# Altium footprint library TCRT5000.PcbLib: 1 footprints
Each footprint in its own frame and in the unit in brackets; x right, y up, seen from the top. Pads: shape width x height; smd on the part's side, far side on the other; paste and mask are expansions set on the pad; w line width, h text height; cw(c..) or ccw(c..) is an arc to the next point about the centre after c.
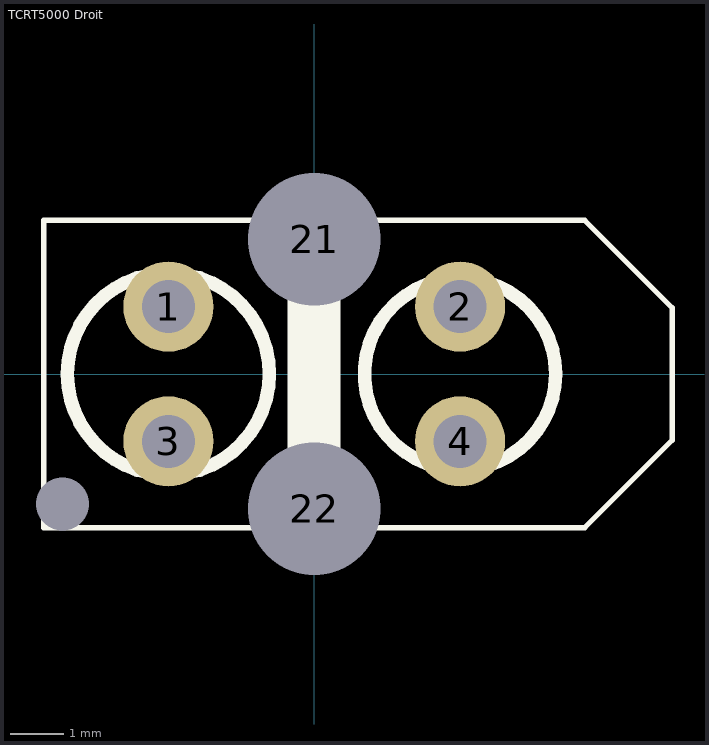
[diagram p0: the footprint, top view; thin cyan lines are the x and y axes]

## TCRT5000 Droit [mm]
pads (7):
  round 1.7 hole 1: 1(-2.75,1.27) 2(2.75,1.27) 3(-2.75,-1.27) 4(2.75,-1.27)
  round 0 hole 1: 21(-4.75,-2.45)
  round 1.524 hole 2.5: 21(0,2.54) 22(0,-2.54)
Top Overlay:
  circle w0.254: c-2.75,0 r1.904
  circle w0.254: c2.75,0 r1.803
  lines w0.1: -5.1,-2.9 -5.1,2.9 5.1,2.9 6.75,1.25 6.75,-1.25 5.1,-2.9 -5.1,-2.9
  lines w1: 0,-2.54 0,2.54